# Altium schematic symbol library Arduino.SchLib: 1 symbol
Pins are listed as number, name and electrical type; pins without a type are passive.

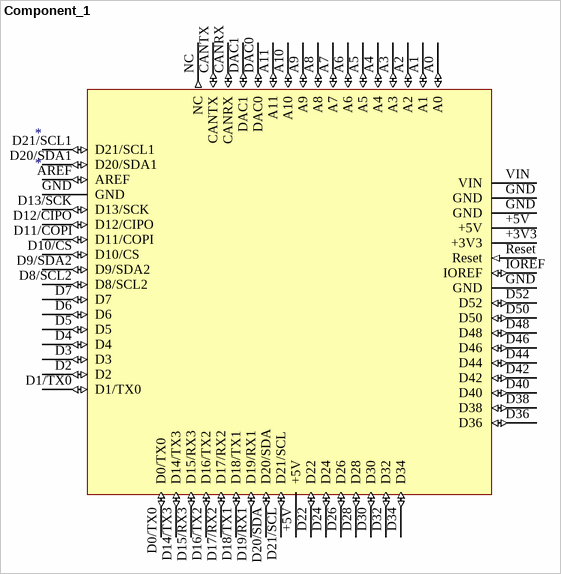
[diagram p0: symbol Component_1]

## Component_1
designator *
footprint Arduino_Giga_R1_WiFi_Shield
pins: +3V3 (power), +5V (power), +5V (power), A0 (io), A1 (io), A2 (io), A3 (io), A4 (io), A5 (io), A6 (io), A7 (io), A8 (io), A9 (io), A10 (io), A11 (io), AREF (io), CANRX (io), CANTX (io), D0/TX0 (io), D1/TX0 (io), D2 (io), D3 (io), D4 (io), D5 (io), D6 (io), D7 (io), D8/SCL2 (io), D9/SDA2 (io), D10/CS (io), D11/COPI (io), D12/CIPO (io), D13/SCK (io), D14/TX3 (io), D15/RX3 (io), D16/TX2 (io), D17/RX2 (io), D18/TX1 (io), D19/RX1 (io), D20/SDA (io), D20/SDA1 (io), D21/SCL (io), D21/SCL1 (io), D22 (io), D24 (io), D26 (io), D28 (io), D30 (io), D32 (io), D34 (io), D36 (io), D38 (io), D40 (io), D42 (io), D44 (io), D46 (io), D48 (io), D50 (io), D52 (io), DAC0 (io), DAC1 (io), GND (power), GND (power), GND (power), GND (power), IOREF (io), NC (out), Reset (in), VIN (power)